# Altium schematic symbol library BB-HEADER-P04-P06.SchLib: 1 symbol
Pins are listed as number, name and electrical type; pins without a type are passive.

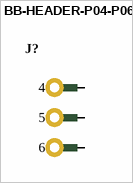
[diagram p0: symbol BB-HEADER-P04-P06]

## BB-HEADER-P04-P06
designator J?  (value not drawn)
BB Header, Vertical, Male, 0.1", 2.54mm, P04-P06
pins: 4, 5, 6